# EAGLE library part MC9S08SH4CTG (library freescale-semi)
HCS08 Microcontroller
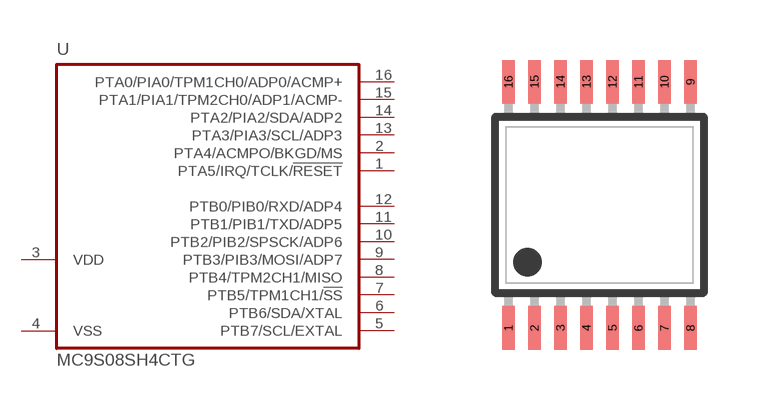
[diagram p1: symbol with the pads of TSSOP16; footprint TSSOP16]

Designator prefix U

## MC9S08SH4CTG  [TSSOP16]
1  PTA5/IRQ/TCLK/!RESET!
2  PTA4/ACMPO/BKGD/MS
3  VDD  pwr
4  VSS  pwr
5  PTB7/SCL/EXTAL
6  PTB6/SDA/XTAL
7  PTB5/TPM1CH1/!SS!
8  PTB4/TPM2CH1/MISO
9  PTB3/PIB3/MOSI/ADP7
10  PTB2/PIB2/SPSCK/ADP6
11  PTB1/PIB1/TXD/ADP5
12  PTB0/PIB0/RXD/ADP4
13  PTA3/PIA3/SCL/ADP3
14  PTA2/PIA2/SDA/ADP2
15  PTA1/PIA1/TPM2CH0/ADP1/ACMP-
16  PTA0/PIA0/TPM1CH0/ADP0/ACMP+

## Footprint TSSOP16 (pad centres in mm)
Thin Shrink Small Outline Plastic 16
smd 0.31 x 1.1: 1 -2.275,-3.08; 2 -1.625,-3.08; 3 -0.975,-3.08; 4 -0.325,-3.08; 5 0.325,-3.08; 6 0.975,-3.08; 7 1.625,-3.08; 8 2.275,-3.08; 9 2.275,3.08; 10 1.625,3.08; 11 0.975,3.08; 12 0.325,3.08; 13 -0.325,3.08; 14 -0.975,3.08; 15 -1.625,3.08; 16 -2.275,3.08